# Altium footprint library Resistor.PcbLib: 9 footprints
Each footprint in its own frame and in the unit in brackets; x right, y up, seen from the top. Pads: shape width x height; smd on the part's side, far side on the other; paste and mask are expansions set on the pad; w line width, h text height; cw(c..) or ccw(c..) is an arc to the next point about the centre after c.
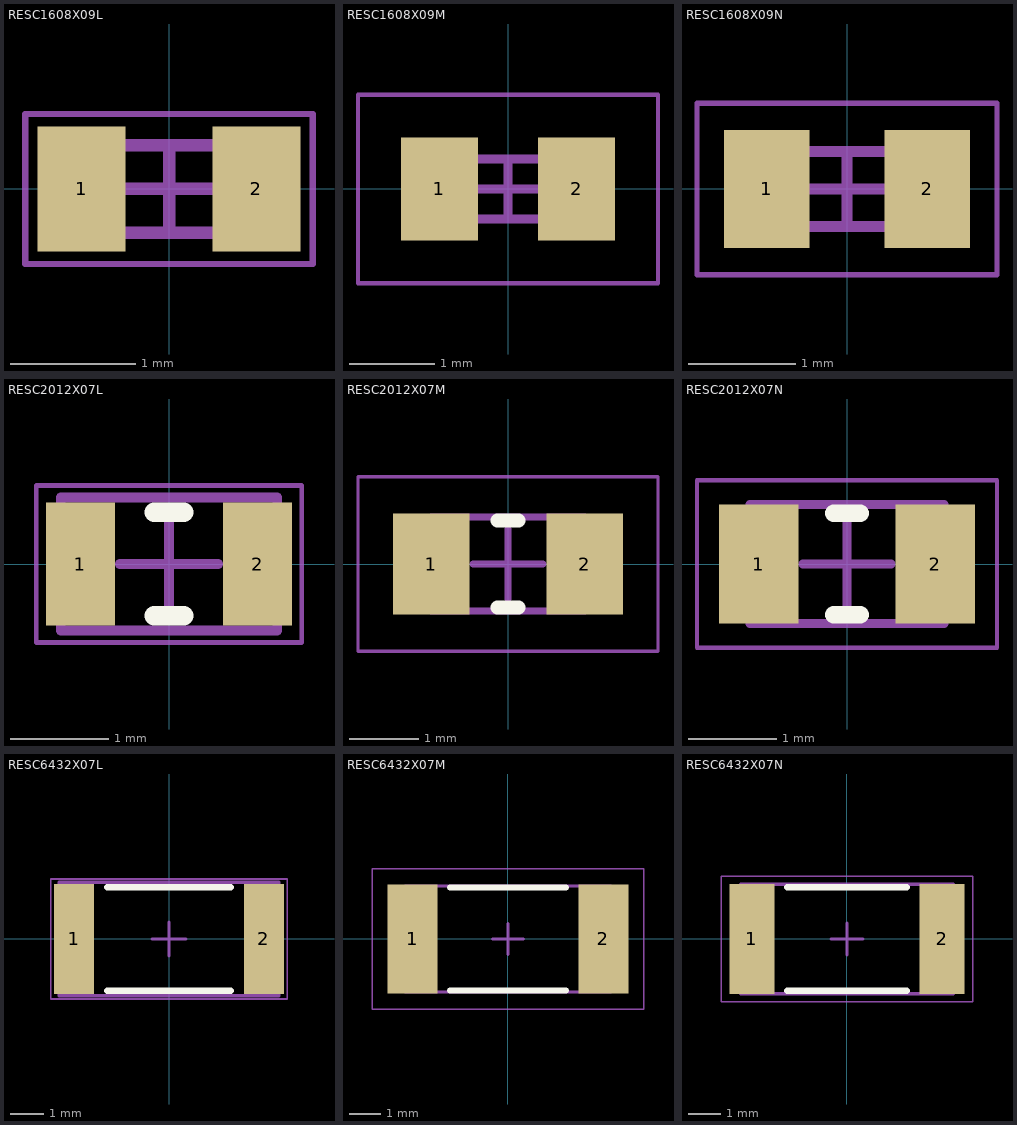
[diagram p0: the footprints below, top view; thin cyan lines are the x and y axes]

## RESC1608X09L [mm] "Chip Resistor, 2-Leads, Body 1.60x0.80mm, IPC High Density"
height 0.9
pads (2):
  rect 0.7x1 smd: 1(-0.7,0) 2(0.7,0)
Mechanical 13:
  lines w0.1: -0.75,-0.35 -0.75,0.35 0.75,0.35 0.75,-0.35 -0.75,-0.35
Mechanical 15:
  lines w0.05: -1.15,-0.6 -1.15,0.6 1.15,0.6 1.15,-0.6 -1.15,-0.6
  lines w0.1: -0.35,0 0.35,0 ; 0,-0.35 0,0.35
3D body "RESC1608X09L.step": height 0.9, standoff 0, extent -0.75,-0.35 0.75,0.35

## RESC1608X09M [mm] "Chip Resistor, 2-Leads, Body 1.60x0.80mm, IPC Low Density"
height 0.9
pads (2):
  rect 0.9x1.2 smd: 1(-0.8,0) 2(0.8,0)
Mechanical 13:
  lines w0.1: -0.75,-0.35 -0.75,0.35 0.75,0.35 0.75,-0.35 -0.75,-0.35
Mechanical 15:
  lines w0.05: -1.75,-1.1 -1.75,1.1 1.75,1.1 1.75,-1.1 -1.75,-1.1
  lines w0.1: -0.35,0 0.35,0 ; 0,-0.35 0,0.35
3D body "RESC1608X09M.step": height 0.9, standoff 0, extent -0.75,-0.35 0.75,0.35

## RESC1608X09N [mm] "Chip Resistor, 2-Leads, Body 1.60x0.80mm, IPC Medium Density"
height 0.9
pads (2):
  rect 0.8x1.1 smd: 1(-0.75,0) 2(0.75,0)
Mechanical 13:
  lines w0.1: -0.75,-0.35 -0.75,0.35 0.75,0.35 0.75,-0.35 -0.75,-0.35
Mechanical 15:
  lines w0.05: -1.4,-0.8 -1.4,0.8 1.4,0.8 1.4,-0.8 -1.4,-0.8
  lines w0.1: -0.35,0 0.35,0 ; 0,-0.35 0,0.35
3D body "RESC1608X09N.step": height 0.9, standoff 0, extent -0.75,-0.35 0.75,0.35

## RESC2012X07L [mm] "Chip Resistor, 2-Leads, Body 2.00x1.25mm, IPC High Density"
height 0.7
pads (2):
  rect 0.7x1.25 smd: 1(-0.9,0) 2(0.9,0)
Top Overlay:
  lines w0.2: -0.15,-0.525 0.15,-0.525 ; -0.15,0.525 0.15,0.525
Mechanical 13:
  lines w0.1: -1.1,-0.675 1.1,-0.675 1.1,0.675 -1.1,0.675 -1.1,-0.675
Mechanical 15:
  lines w0.05: -1.35,-0.8 1.35,-0.8 1.35,0.8 -1.35,0.8 -1.35,-0.8
  lines w0.1: -0.5,0 0.5,0 ; 0,-0.5 0,0.5
3D body "RESC2012X07L.step": height 0.7, standoff 0, extent -1.1,-0.675 1.1,0.675

## RESC2012X07M [mm] "Chip Resistor, 2-Leads, Body 2.00x1.25mm, IPC Low Density"
height 0.7
pads (2):
  rect 1.1x1.45 smd: 1(-1.1,0) 2(1.1,0)
Top Overlay:
  lines w0.2: -0.15,-0.625 0.15,-0.625 ; -0.15,0.625 0.15,0.625
Mechanical 13:
  lines w0.1: -1.1,-0.675 1.1,-0.675 1.1,0.675 -1.1,0.675 -1.1,-0.675
Mechanical 15:
  lines w0.05: -2.15,-1.25 2.15,-1.25 2.15,1.25 -2.15,1.25 -2.15,-1.25
  lines w0.1: -0.5,0 0.5,0 ; 0,-0.5 0,0.5
3D body "RESC2012X07M.step": height 0.7, standoff 0, extent -1.1,-0.675 1.1,0.675

## RESC2012X07N [mm] "Chip Resistor, 2-Leads, Body 2.00x1.25mm, IPC Medium Density"
height 0.7
pads (2):
  rect 0.9x1.35 smd: 1(-1,0) 2(1,0)
Top Overlay:
  lines w0.2: -0.15,-0.575 0.15,-0.575 ; -0.15,0.575 0.15,0.575
Mechanical 13:
  lines w0.1: -1.1,-0.675 1.1,-0.675 1.1,0.675 -1.1,0.675 -1.1,-0.675
Mechanical 15:
  lines w0.05: -1.7,-0.95 1.7,-0.95 1.7,0.95 -1.7,0.95 -1.7,-0.95
  lines w0.1: -0.5,0 0.5,0 ; 0,-0.5 0,0.5
3D body "RESC2012X07N.step": height 0.7, standoff 0, extent -1.1,-0.675 1.1,0.675

## RESC6432X07L [mm] "Chip Resistor, 2-Leads, Body 6.40x3.20mm, IPC High Density"
height 0.7
pads (2):
  rect 1.2x3.3 smd: 1(-2.85,0) 2(2.85,0)
Top Overlay:
  lines w0.2: -1.85,-1.55 1.85,-1.55 ; -1.85,1.55 1.85,1.55
Mechanical 13:
  lines w0.1: -3.3,-1.7 -3.3,1.7 3.3,1.7 3.3,-1.7 -3.3,-1.7
Mechanical 15:
  lines w0.05: -3.55,-1.8 -3.55,1.8 3.55,1.8 3.55,-1.8 -3.55,-1.8
  lines w0.1: -0.5,0 0.5,0 ; 0,-0.5 0,0.5
3D body "RESC6432X07L.step": height 0.7, standoff 0, extent -3.3,-1.7 3.3,1.7

## RESC6432X07M [mm] "Chip Resistor, 2-Leads, Body 6.40x3.20mm, IPC Low Density"
height 0.7
pads (2):
  rect 1.6x3.5 smd: 1(-3.05,0) 2(3.05,0)
Top Overlay:
  lines w0.2: -1.85,-1.65 1.85,-1.65 ; -1.85,1.65 1.85,1.65
Mechanical 13:
  lines w0.1: -3.3,-1.7 3.3,-1.7 3.3,1.7 -3.3,1.7 -3.3,-1.7
Mechanical 15:
  lines w0.05: -4.35,-2.25 4.35,-2.25 4.35,2.25 -4.35,2.25 -4.35,-2.25
  lines w0.1: -0.5,0 0.5,0 ; 0,-0.5 0,0.5
3D body "RESC6432X07M.step": height 0.7, standoff 0, extent -3.3,-1.7 3.3,1.7

## RESC6432X07N [mm] "Chip Resistor, 2-Leads, Body 6.40x3.20mm, IPC Medium Density"
height 0.7
pads (2):
  rect 1.4x3.4 smd: 1(-2.95,0) 2(2.95,0)
Top Overlay:
  lines w0.2: -1.85,-1.6 1.85,-1.6 ; -1.85,1.6 1.85,1.6
Mechanical 13:
  lines w0.1: -3.3,-1.7 3.3,-1.7 3.3,1.7 -3.3,1.7 -3.3,-1.7
Mechanical 15:
  lines w0.05: -3.9,-1.95 3.9,-1.95 3.9,1.95 -3.9,1.95 -3.9,-1.95
  lines w0.1: -0.5,0 0.5,0 ; 0,-0.5 0,0.5
3D body "RESC6432X07N.step": height 0.7, standoff 0, extent -3.3,-1.7 3.3,1.7